# Altium footprint library RS485_PCB_Lib.PcbLib: 30 footprints (part 1 of 2)
Each footprint in its own frame and in the unit in brackets; x right, y up, seen from the top. Pads: shape width x height; smd on the part's side, far side on the other; paste and mask are expansions set on the pad; w line width, h text height; cw(c..) or ccw(c..) is an arc to the next point about the centre after c.
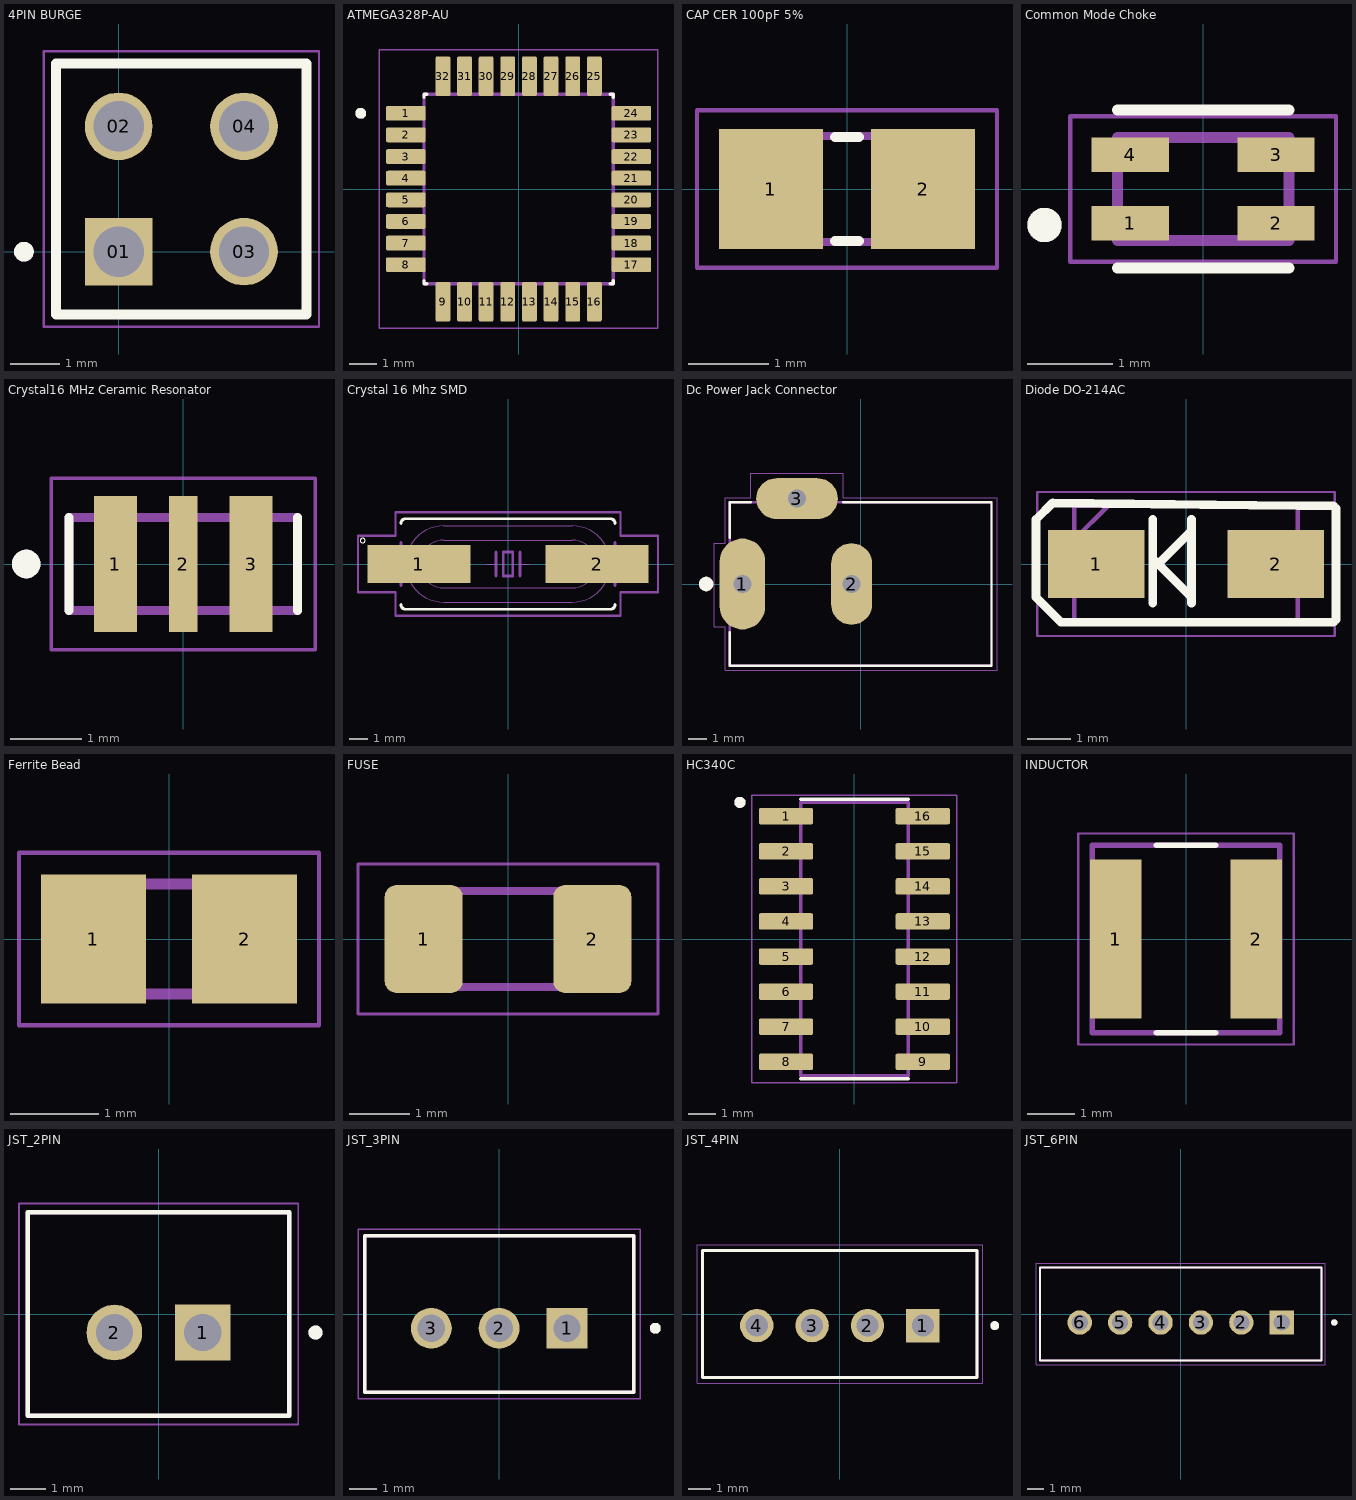
[diagram p0: the footprints below, top view; thin cyan lines are the x and y axes]

## 4PIN BURGE [mm] "Connector Header Through Hole 4 position 0.100 (2.54mm), 4X2 PIN"
pads (4):
  rect 1.37x1.37 hole 1.02: 01(0,0)
  round 1.37 hole 1.02: 02(0,2.54) 03(2.54,0) 04(2.54,2.54)
Top Overlay:
  circle w0.2: c-1.92,0 r0.1
  lines w0.2: -1.27,-1.27 -1.27,3.81 3.81,3.81 3.81,-1.27 -1.27,-1.27
Mechanical 13:
  circle w0.2: c-1.92,0 r0.1
  lines w0.1: -1.27,-1.27 -1.27,3.81 3.81,3.81 3.81,-1.27 -1.27,-1.27
Mechanical 15:
  lines w0.05: -1.52,-1.52 -1.52,4.06 4.06,4.06 4.06,-1.52 -1.52,-1.52

## ATMEGA328P-AU [mm] "ATMEGA328P-AU MCU 8-bit 20 MHz - 32 KB - 2 KB - TQFN32"
height 1.2
pads (32):
  rrect25% 1.47x0.55 smd: 1(-4.17,2.8) 2(-4.17,2) 3(-4.17,1.2) 4(-4.17,0.4) 5(-4.17,-0.4) 6(-4.17,-1.2) 7(-4.17,-2) 8(-4.17,-2.8) 17(4.17,-2.8) 18(4.17,-2) 19(4.17,-1.2) 20(4.17,-0.4) 21(4.17,0.4) 22(4.17,1.2) 23(4.17,2) 24(4.17,2.8)
  rrect25% 0.55x1.47 smd: 9(-2.8,-4.17) 10(-2,-4.17) 11(-1.2,-4.17) 12(-0.4,-4.17) 13(0.4,-4.17) 14(1.2,-4.17) 15(2,-4.17) 16(2.8,-4.17) 25(2.8,4.17) 26(2,4.17) 27(1.2,4.17) 28(0.4,4.17) 29(-0.4,4.17) 30(-1.2,4.17) 31(-2,4.17) 32(-2.8,4.17)
Top Overlay:
  circle w0.2: c-5.84,2.8 r0.1
  lines w0.127: -3.5,-3.395 -3.5,-3.5 -3.395,-3.5 ; -3.5,3.395 -3.5,3.5 -3.395,3.5 ; 3.395,-3.5 3.5,-3.5 3.5,-3.395 ; 3.395,3.5 3.5,3.5 3.5,3.395
Mechanical 13:
  circle w0.2: c-5.84,2.8 r0.1
  lines w0.127: -3.5,-3.5 3.5,-3.5 3.5,3.5 -3.5,3.5 -3.5,-3.5
Mechanical 15:
  lines w0.05: -5.155,-5.155 5.155,-5.155 5.155,5.155 -5.155,5.155 -5.155,-5.155
3D body "step_temp.STEP": height 1.2, standoff 0, extent -4.428,-4.572 4.572,4.428

## CAP CER 100pF 5% [mm] "CAP CER 100PF50V X7R 0805"
pads (2):
  rect 1.3x1.5 smd: 1(-0.95,0) 2(0.95,0)
Top Overlay:
  lines w0.127: -0.15,-0.65 0.15,-0.65 ; -0.15,0.65 0.15,0.65
Mechanical 13:
  region: 1.106,-0.724 0.356,-0.724 0.356,0.726 1.106,0.726
  region: -0.342,-0.724 -1.092,-0.724 -1.092,0.726 -0.342,0.726
  lines w0.102: -0.381,0.66 0.381,0.66 ; -0.356,-0.66 0.381,-0.66
Mechanical 15:
  lines w0.051: -1.873,-0.983 -1.873,0.983 1.873,0.983 1.873,-0.983 -1.873,-0.983
3D body "GCJ216R71H222KA01D.STEP": height 1.22, standoff -0.03, extent -1,-0.725 1,0.725

## Common Mode Choke [mm] "DLW21HN900SQ2L,2 Line Common Mode Choke Surface Mount 90 Ohms @ 100MHz 330mA DCR 350mOhm"
pads (4):
  rect 0.9x0.4 smd paste-1: 1(-0.85,-0.4) 2(0.85,-0.4) 3(0.85,0.4) 4(-0.85,0.4)
Top Overlay:
  circle w0.2: c-1.85,-0.42 r0.1
  lines w0.127: -1,-0.92 1,-0.92 ; -1,0.92 1,0.92
Top Paste:
  region: 1.3,0.25 0.4,0.25 0.4,0.6 1.3,0.6
  region: -0.4,0.25 -1.3,0.25 -1.3,0.6 -0.4,0.6
  region: 1.3,-0.6 0.4,-0.6 0.4,-0.25 1.3,-0.25
  region: -0.4,-0.6 -1.3,-0.6 -1.3,-0.25 -0.4,-0.25
Mechanical 13:
  circle w0.2: c-1.85,-0.42 r0.1
  lines w0.127: -1,-0.6 -1,0.6 1,0.6 1,-0.6 -1,-0.6
Mechanical 15:
  lines w0.05: -1.55,-0.85 1.55,-0.85 1.55,0.85 -1.55,0.85 -1.55,-0.85
3D body "step_temp.STEP": height 1, standoff 0, extent -1,-0.6 1,0.6

## Crystal16 MHz Ceramic Resonator [mm] "16 MHz Ceramic Resonator Built in Capacitor 15 pF Â±0.3% -20Â°C ~ 80Â°C Surface Mount-CSTCE16M0V53-R0"
pads (3):
  rect 0.6x1.9 smd: 1(-0.95,0) 3(0.95,0)
  rect 0.4x1.9 smd: 2(0,0)
Top Overlay:
  circle w0.2: c-2.2,0 r0.1
  lines w0.127: -1.6,-0.65 -1.6,0.65 ; 1.6,-0.65 1.6,0.65
Mechanical 13:
  circle w0.2: c-2.2,0 r0.1
  lines w0.127: -1.6,-0.65 1.6,-0.65 1.6,0.65 -1.6,0.65 -1.6,-0.65
Mechanical 15:
  lines w0.05: -1.85,-1.2 1.85,-1.2 1.85,1.2 -1.85,1.2 -1.85,-1.2
3D body "step_temp.STEP": height 1, standoff 0, extent -1.6,-0.65 1.6,0.65

## Crystal 16 Mhz SMD [mm] "16 Mhz Crystal SMD –CSM-4ALX(28ALX) 12.5mmX4.85mmX4mm"
pads (2):
  rect 5.5x2 smd: 1(-4.75,0) 2(4.75,0)
Top Overlay:
  circle w0: c-7.75,1.25 r0.127
  lines w0.152: -5.715,-2.159 ccw(c-5.461,-2.159) -5.461,-2.413 5.461,-2.413 ccw(c5.461,-2.159) 5.715,-2.159 ; -5.715,2.159 cw(c-5.461,2.159) -5.461,2.413 5.461,2.413 cw(c5.461,2.159) 5.715,2.159
Mechanical 13:
  lines w0.051: -1.143,0 -0.635,0 ; 0.635,0 1.143,0 ; -5.114,-1.136 cw(c-3.429,0) -5.114,1.136 cw(c-3.429,0) -3.429,2.032 3.429,2.032 cw(c3.429,0) 5.114,1.136 cw(c3.429,0) 5.114,-1.136 cw(c3.429,0) 3.429,-2.032 -3.429,-2.032 cw(c-3.429,0) -5.114,-1.136 ; -3.986,-1.141 cw(c-3.429,0) -3.986,1.141 cw(c-3.429,0) -3.429,1.27 3.429,1.27 cw(c3.429,0) 3.986,1.141 cw(c3.429,0) 3.986,-1.141 cw(c3.429,0) 3.429,-1.27 -3.429,-1.27 cw(c-3.429,0) -3.986,-1.141
  lines w0.152: -5.715,-1.143 -5.715,1.143 ; -5.715,-0.381 -6.477,-0.381 -6.477,0.381 -5.715,0.381 ; -0.635,-0.635 -0.635,0 -0.635,0.635 ; 0.635,-0.635 0.635,0 0.635,0.635 ; 5.715,-1.143 5.715,-0.381 ; 5.715,1.143 5.715,0.381 ; 5.715,-0.381 6.477,-0.381 6.477,0.381 5.715,0.381 ; 5.715,-0.381 5.715,0.381 ; -0.254,-0.635 0.254,-0.635 0.254,0.635 -0.254,0.635 -0.254,-0.635
Mechanical 15:
  lines w0.127: -8,-1.5 -6,-1.5 -6,-2.75 6,-2.75 6,-1.5 8,-1.5 8,1.5 6,1.5 6,2.75 -6,2.75 -6,1.5 -8,1.5 -8,-1.5
3D body "step_temp.STEP": height 4.5, standoff 0, extent -6.75,-2.5 6.75,2.5

## Dc Power Jack Connector [mm] "CUI_PJ-202AH"
pads (3):
  oval 2.5x5 hole 1 square: 1(-6.5,0)
  oval 2.25x4.5 hole 1 square: 2(-0.5,0)
  oval 4.5x2.25 hole 1 square: 3(-3.5,4.7)
Top Overlay:
  circle w0.4: c-8.5,0 r0.2
  lines w0.127: -7.2,-2.65 -7.2,-4.5 7.2,-4.5 7.2,4.5 -0.95,4.5 ; -7.2,2.55 -7.2,4.5 -6.05,4.5
Mechanical 13:
  lines w0.127: -7.2,-4.5 7.2,-4.5 7.2,4.5 -7.2,4.5 -7.2,-4.5
Mechanical 15:
  lines w0.05: -8.05,-2.35 -8.05,2.25 -7.45,2.25 -7.45,4.75 -6.05,4.75 -6.05,6.1 -0.95,6.1 -0.95,4.75 7.5,4.75 7.5,-4.75 -7.45,-4.75 -7.45,-2.35 -8.05,-2.35
3D body "step_temp.STEP": height 11, standoff -3.5, extent -7.288,-4.7 7.112,4.7

## Diode DO-214AC [mm] "Diode Standard 100 V 1A Surface Mount DO-214AC (SMA)"
pads (2):
  rect 2.2x1.55 smd: 1(-2.05,0) 2(2.05,0)
Top Overlay:
  lines w0.2: -0.762,-0.889 -0.762,1.016 ; -0.762,0.064 -0.699,0.064 0.127,-0.762 0.127,0.762 -0.572,0.064 ; 0.127,-0.889 0.127,1.016 ; -3.429,-0.762 -2.859,-1.332 -2.552,-1.332 2.552,-1.332 3.367,-1.332 3.429,-1.27 3.429,1.27 3.367,1.332 2.552,1.332 -3.048,1.397 -3.429,1.016 -3.429,-0.762
Mechanical 13:
  lines w0.05: -3.4,-1.645 -3.4,1.645 3.4,1.645 3.4,-1.645 -3.4,-1.645
  lines w0.1: -2.552,0.558 -1.778,1.332 ; -2.552,-1.332 -2.552,1.332 2.552,1.332 2.552,-1.332 -2.552,-1.332
3D body "step_temp.STEP": height 2.29, standoff 0, extent -2.553,-1.333 2.553,1.333

## Ferrite Bead [mm] "Ferrite Bead 0805"
pads (2):
  rect 1.2x1.47 smd: 1(-0.86,0) 2(0.86,0)
Mechanical 13:
  lines w0.127: -1,-0.625 -1,0.625 1,0.625 1,-0.625 -1,-0.625
Mechanical 15:
  lines w0.05: -1.708,-0.983 -1.708,0.983 1.708,0.983 1.708,-0.983 -1.708,-0.983

## FUSE [mm] "C1H25 .5 A 125 V AC 32 V DC Fuse Board Mount (Cartridge Style Excluded) Surface Mount 1206 (3216 Metric)"
pads (2):
  rrect30% 1.3x1.8 smd: 1(-1.405,0) 2(1.405,0)
Mechanical 13:
  lines w0.127: -1.6,-0.8 1.6,-0.8 1.6,0.8 -1.6,0.8 -1.6,-0.8
Mechanical 15:
  lines w0.05: -2.5,-1.25 -2.5,1.25 2.5,1.25 2.5,-1.25 -2.5,-1.25
3D body "step_temp.STEP": height 0.85, standoff 0, extent -1.6,-0.79 1.6,0.79

## HC340C [mm] "FTDI 16-SOIC"
pads (16):
  rrect25% 1.97x0.6 smd: 1(-2.475,4.445) 2(-2.475,3.175) 3(-2.475,1.905) 4(-2.475,0.635) 5(-2.475,-0.635) 6(-2.475,-1.905) 7(-2.475,-3.175) 8(-2.475,-4.445) 9(2.475,-4.445) 10(2.475,-3.175) 11(2.475,-1.905) 12(2.475,-0.635) 13(2.475,0.635) 14(2.475,1.905) 15(2.475,3.175) 16(2.475,4.445)
Top Overlay:
  circle w0.2: c-4.145,4.945 r0.1
  lines w0.127: -1.95,-5.065 1.95,-5.065 ; -1.95,5.065 1.95,5.065
Mechanical 13:
  circle w0.2: c-4.145,4.945 r0.1
  lines w0.127: -1.95,-4.95 -1.95,4.95 1.95,4.95 1.95,-4.95 -1.95,-4.95
Mechanical 15:
  lines w0.05: -3.71,-5.2 -3.71,5.2 3.71,5.2 3.71,-5.2 -3.71,-5.2
3D body "step_temp.STEP": height 1.75, standoff 0, extent -3,-4.95 3,4.95

## INDUCTOR [mm] "IND_ASPI-4030S-120M-T"
height 3
pads (2):
  rect 1.1x3.4 smd: 1(-1.5,0) 2(1.5,0)
Top Overlay:
  lines w0.127: -0.63,-2 0.63,-2 ; -0.63,2 0.63,2
Mechanical 13:
  lines w0.127: -2,-2 2,-2 2,2 -2,2 -2,-2
Mechanical 15:
  lines w0.05: -2.3,-2.25 2.3,-2.25 2.3,2.25 -2.3,2.25 -2.3,-2.25
3D body "step_temp.STEP": height 3, standoff 0, extent -2,-2 2,2

## JST_2PIN [mm] "B2B-XH-A(LF)(SN),Connector Header Through Hole 3 position 0.098 (2.50mm)Connector Header Through Hole 2 position 0.098 (2.50mm)"
height 7
pads (2):
  rect 1.575x1.575 / inner round 1.575 / far side rect 1.575x1.575 hole 1.05: 1(1.25,-0.525)
  round 1.575 hole 1.05: 2(-1.25,-0.525)
Top Overlay:
  circle w0.2: c4.44,-0.525 r0.1
  lines w0.127: -3.7,-2.875 3.7,-2.875 3.7,2.875 -3.7,2.875 -3.7,-2.875
Mechanical 13:
  circle w0.2: c4.44,-0.525 r0.1
  lines w0.127: -3.7,-2.875 3.7,-2.875 3.7,2.875 -3.7,2.875 -3.7,-2.875
Mechanical 15:
  lines w0.05: -3.95,-3.125 -3.95,3.125 3.95,3.125 3.95,-3.125 -3.95,-3.125
3D body "step_temp.STEP": height 7, standoff -3.4, extent -3.7,-2.875 3.7,2.875

## JST_3PIN [mm] "B3B-XH-A(LF)(SN),Connector Header Through Hole 3 position 0.098 (2.50mm)"
height 7
pads (3):
  rect 1.508x1.508 / inner round 1.508 / far side rect 1.508x1.508 hole 1: 1(2.5,-0.525)
  round 1.508 hole 1: 2(0,-0.525) 3(-2.5,-0.525)
Top Overlay:
  circle w0.2: c5.75,-0.525 r0.1
  lines w0.127: -4.95,-2.875 4.95,-2.875 4.95,2.875 -4.95,2.875 -4.95,-2.875
Mechanical 13:
  circle w0.2: c5.75,-0.525 r0.1
  lines w0.127: -4.95,-2.875 4.95,-2.875 4.95,2.875 -4.95,2.875 -4.95,-2.875
Mechanical 15:
  lines w0.05: -5.2,-3.125 5.2,-3.125 5.2,3.125 -5.2,3.125 -5.2,-3.125
3D body "step_temp.STEP": height 7, standoff -3.4, extent -4.95,-2.875 4.95,2.875

## JST_4PIN [mm] "B4B-XH-A(LF)(SN),Connector Header Through Hole 4 position 0.098 (2.50mm)"
height 7
pads (4):
  rect 1.508x1.508 / inner round 1.508 / far side rect 1.508x1.508 hole 1: 1(3.75,-0.525)
  round 1.508 hole 1: 2(1.25,-0.525) 3(-1.25,-0.525) 4(-3.75,-0.525)
Top Overlay:
  circle w0.2: c7,-0.525 r0.1
  lines w0.127: -6.2,-2.875 6.2,-2.875 6.2,2.875 -6.2,2.875 -6.2,-2.875
Mechanical 13:
  circle w0.2: c7,-0.525 r0.1
  lines w0.127: -6.2,-2.875 6.2,-2.875 6.2,2.875 -6.2,2.875 -6.2,-2.875
Mechanical 15:
  lines w0.05: -6.45,-3.125 6.45,-3.125 6.45,3.125 -6.45,3.125 -6.45,-3.125
3D body "step_temp.STEP": height 7, standoff -3.4, extent -6.2,-2.875 6.2,2.875

## JST_6PIN [mm] "Connector Header Through Hole 6 position 0.098 (2.50mm),B6B-XH-A(LF)(SN)"
height 7
pads (6):
  rect 1.508x1.508 / inner round 1.508 / far side rect 1.508x1.508 hole 1: 1(6.25,-0.525)
  round 1.508 hole 1: 2(3.75,-0.525) 3(1.25,-0.525) 4(-1.25,-0.525) 5(-3.75,-0.525) 6(-6.25,-0.525)
Top Overlay:
  circle w0.2: c9.5,-0.525 r0.1
  lines w0.127: -8.7,-2.875 -8.7,2.875 8.7,2.875 8.7,-2.875 -8.7,-2.875
Mechanical 13:
  circle w0.2: c9.5,-0.525 r0.1
  lines w0.127: -8.7,-2.875 -8.7,2.875 8.7,2.875 8.7,-2.875 -8.7,-2.875
Mechanical 15:
  lines w0.05: -8.95,-3.125 -8.95,3.125 8.95,3.125 8.95,-3.125 -8.95,-3.125
3D body "step_temp.STEP": height 7, standoff -3.4, extent -8.7,-2.875 8.7,2.875